# Altium footprint library LTM8049IY.PcbLib: 1 footprints
Each footprint in its own frame and in the unit in brackets; x right, y up, seen from the top. Pads: shape width x height; smd on the part's side, far side on the other; paste and mask are expansions set on the pad; w line width, h text height; cw(c..) or ccw(c..) is an arc to the next point about the centre after c.
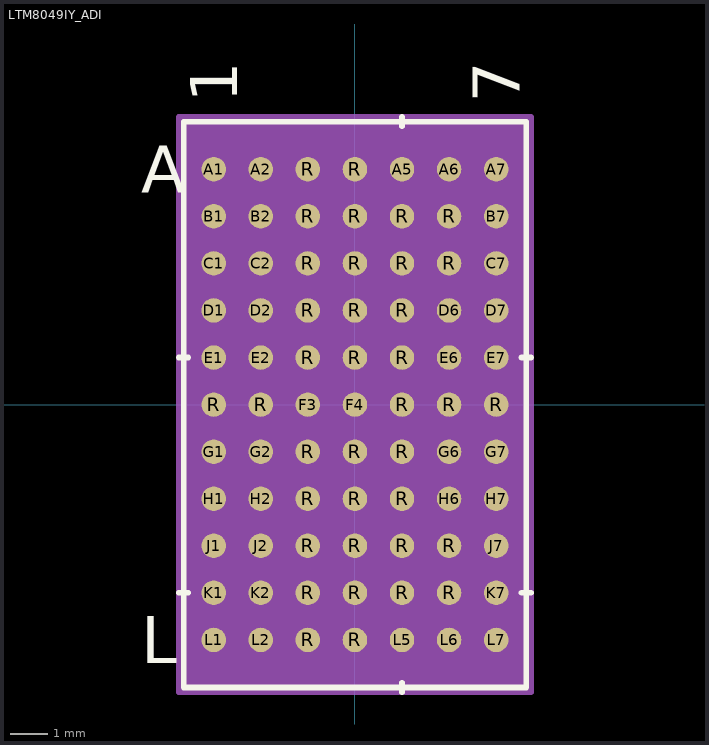
[diagram p0: the footprint, top view; thin cyan lines are the x and y axes]

## LTM8049IY_ADI [mil]
pads (77):
  round 26 smd paste+0 mask+0: A1(-150,250) A2(-100,250) A5(50,250) A6(100,250) A7(150,250) B1(-150,200) B2(-100,200) B7(150,200) C1(-150,150) C2(-100,150) C7(150,150) D1(-150,100) D2(-100,100) D6(100,100) D7(150,100) E1(-150,50) E2(-100,50) E6(100,50) E7(150,50) F3(-50,0) F4(0,0) G1(-150,-50) G2(-100,-50) G6(100,-50) G7(150,-50) H1(-150,-100) H2(-100,-100) H6(100,-100) H7(150,-100) J1(-150,-150) J2(-100,-150) J7(150,-150) K1(-150,-200) K2(-100,-200) K7(150,-200) L1(-150,-250) L2(-100,-250) L5(50,-250) L6(100,-250) L7(150,-250) R(-150,0) R(-100,0) R(-50,-250) R(-50,-200) R(-50,-150) R(-50,-100) R(-50,-50) R(-50,50) R(-50,100) R(-50,150) R(-50,200) R(-50,250) R(0,-250) R(0,-200) R(0,-150) R(0,-100) R(0,-50) R(0,50) R(0,100) R(0,150) R(0,200) R(0,250) R(50,-200) R(50,-150) R(50,-100) R(50,-50) R(50,0) R(50,50) R(50,100) R(50,150) R(50,200) R(100,-200) R(100,-150) R(100,0) R(100,150) R(100,200) R(150,0)
Top Overlay:
  lines w6: -187,-200 -177,-200 ; -187,50 -177,50 ; 50,-305.5 50,-295.5 ; 50,295.5 50,305.5 ; 177,-200 187,-200 ; 177,50 187,50 ; -182,-300.5 -182,300.5 182,300.5 182,-300.5 -182,-300.5
  text "7" at 175,320.5 h50
  text "1" at -125,320.5 h50
  text "L" at -227,-275 h50
  text "A" at -227,225 h50
Bottom Overlay:
  text "7" at 125,320.5 h50
  text "1" at -175,320.5 h50
  text "L" at -202,-275 h50
  text "A" at -202,225 h50
Mechanical 13:
  lines w1: -177,270.5 -152,295.5 ; -177,-295.5 -177,295.5 177,295.5 177,-295.5 -177,-295.5
  text "7" at 175,320.5 h50
  text "1" at -125,320.5 h50
  text "L" at -227,-275 h50
  text "A" at -227,225 h50
Mechanical 15:
  region: 187,-305.5 -187,-305.5 -187,305.5 187,305.5
  lines w6: -187,-305.5 187,-305.5 187,305.5 -187,305.5 -187,-305.5
3D body "LTM8049IY_ADI.step": height 103.11, standoff -0.01, extent -177.01,-295.51 177.01,295.51